# Altium footprint library SparkFun-Boards.PCBLIB: 71 footprints (part 3 of 5)
Each footprint in its own frame and in the unit in brackets; x right, y up, seen from the top. Pads: shape width x height; smd on the part's side, far side on the other; paste and mask are expansions set on the pad; w line width, h text height; cw(c..) or ccw(c..) is an arc to the next point about the centre after c.
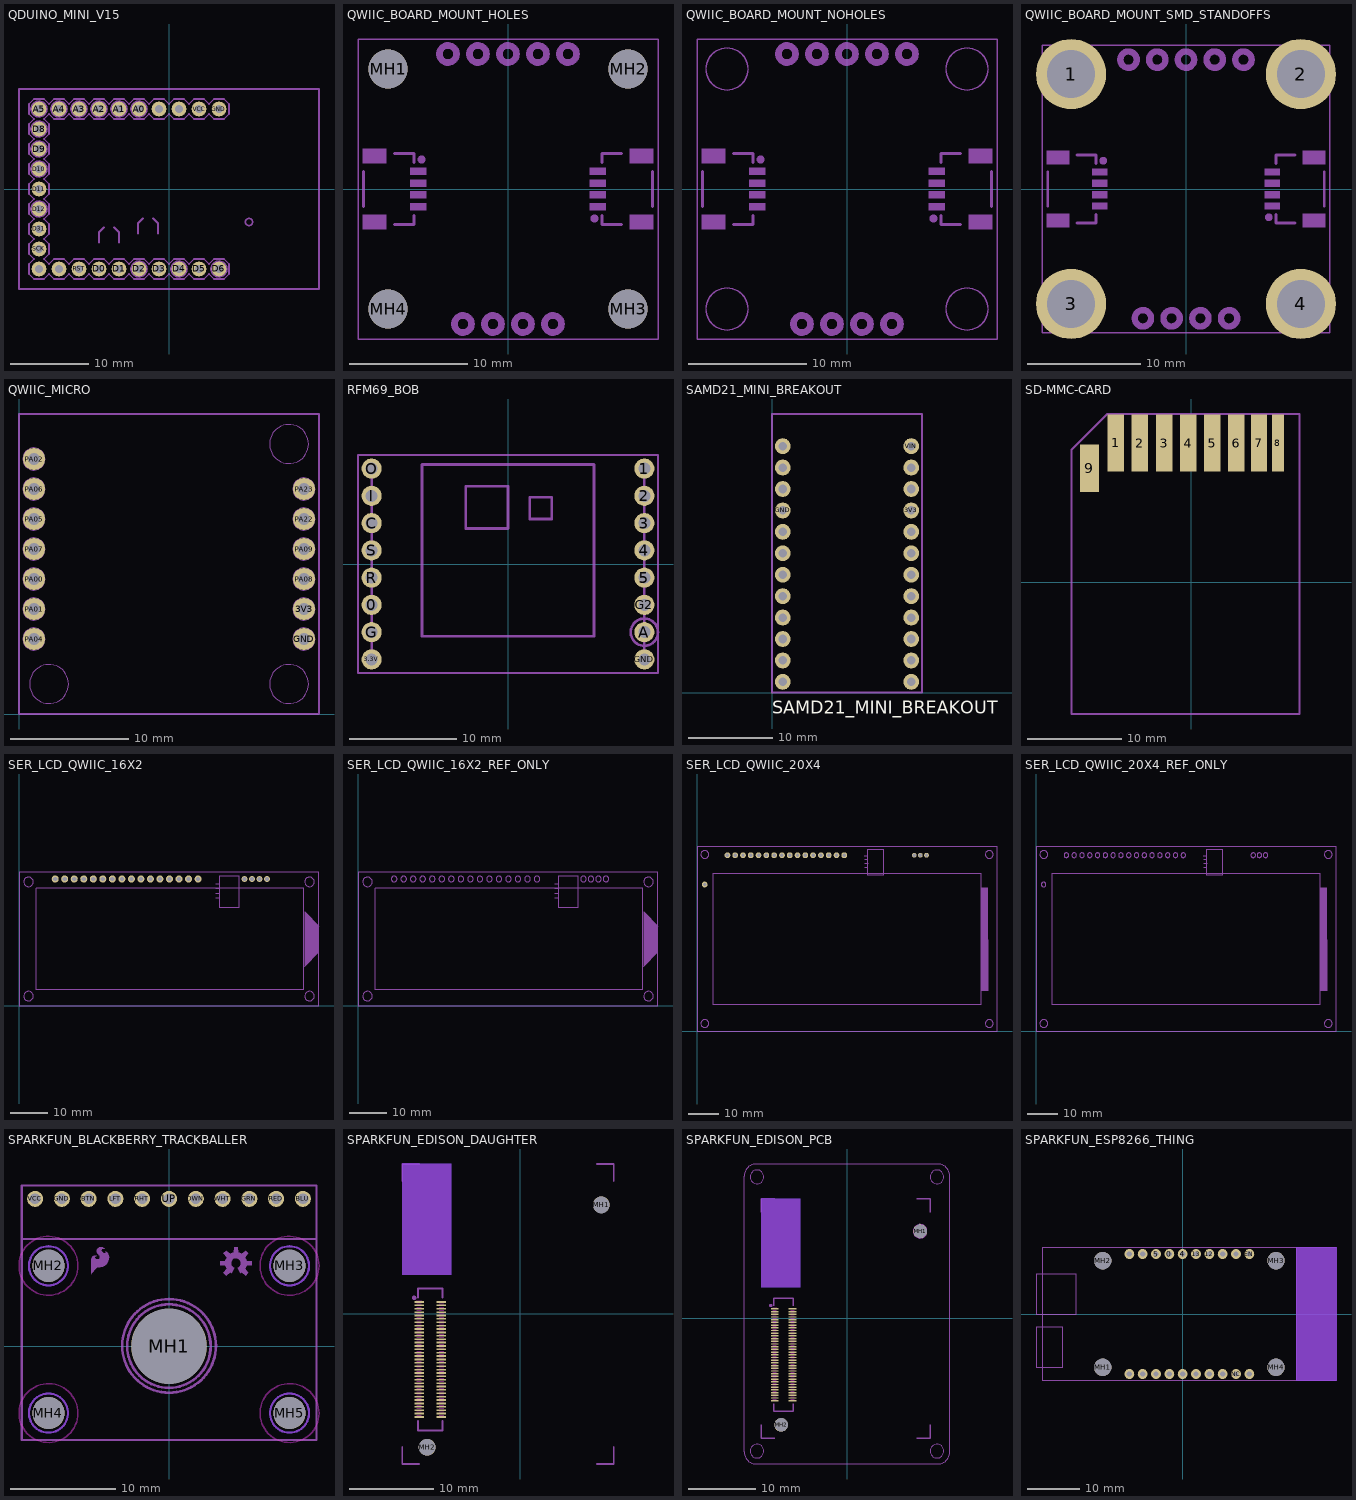
[diagram p2: the footprints below, top view; thin cyan lines are the x and y axes]

## QDUINO_MINI_V15 [mil]
pads (27):
  round 74 hole 40: A0(-150,400) A1(-250,400) A2(-350,400) A3(-450,400) A4(-550,400) A5(-650,400) D0(-350,-400) D1(-250,-400) D2(-150,-400) D3(-50,-400) D4(50,-400) D5(150,-400) D6(250,-400) D8(-650,300) D9(-650,200) D10(-650,100) D11(-650,0) D12(-650,-100) D31(-650,-200) GND(250,400) LIPO(-50,400) MISO(-550,-400) MOSI(-650,-400) RST(-450,-400) SCK(-650,-300) VCC(150,400) VUSB(50,400)
tDocu:
  region: -60,390 -60,410 -40,410 -40,390
  region: -160,390 -160,410 -140,410 -140,390
  region: -260,390 -260,410 -240,410 -240,390
  region: -360,390 -360,410 -340,410 -340,390
  region: -460,390 -460,410 -440,410 -440,390
  region: -560,390 -560,410 -540,410 -540,390
  region: -660,390 -660,410 -640,410 -640,390
  region: 40,390 40,410 60,410 60,390
  region: 140,390 140,410 160,410 160,390
  region: 240,390 240,410 260,410 260,390
  region: -60,-410 -60,-390 -40,-390 -40,-410
  region: -160,-410 -160,-390 -140,-390 -140,-410
  region: -260,-410 -260,-390 -240,-390 -240,-410
  region: -360,-410 -360,-390 -340,-390 -340,-410
  region: -460,-410 -460,-390 -440,-390 -440,-410
  region: -560,-410 -560,-390 -540,-390 -540,-410
  region: -660,-410 -660,-390 -640,-390 -640,-410
  region: 40,-410 40,-390 60,-390 60,-410
  region: 140,-410 140,-390 160,-390 160,-410
  region: 240,-410 240,-390 260,-390 260,-410
  region: -640,290 -660,290 -660,310 -640,310
  region: -640,190 -660,190 -660,210 -640,210
  region: -640,90 -660,90 -660,110 -640,110
  region: -640,-10 -660,-10 -660,10 -640,10
  region: -640,-110 -660,-110 -660,-90 -640,-90
  region: -640,-210 -660,-210 -660,-190 -640,-190
  region: -640,-310 -660,-310 -660,-290 -640,-290
  lines w8: -750,-500 -750,500 750,500 750,-500 -750,-500
tPlace:
  circle w8: c-650,200 r40
  circle w8: c-650,100 r40
  circle w8: c-650,-100 r40
  circle w8: c250,-400 r40
  circle w8: c-650,300 r40
  circle w8: c-150,-400 r40
  circle w8: c-150,400 r40
  circle w8: c-250,400 r40
  circle w8: c-350,400 r40
  circle w8: c-450,400 r40
  circle w8: c-550,400 r40
  circle w8: c-650,400 r40
  circle w8: c50,-400 r40
  text "A5" at -650,475 h27.2
  text "A4" at -550,475 h27.2
  text "A3" at -450,475 h27.2
  text "A2" at -350,475 h27.2
  text "A1" at -250,475 h27.2
  text "A0" at -150,475 h27.2
  text "L+" at -50,475 h27.2
  text "USB" at 50,475 h27.2
  text "+" at 150,475 h27.2
  text "-" at 250,475 h27.2
  text "D8" at -725,300 h27.2
  text "D9" at -725,200 h27.2
  text "D10" at -725,100 h27.2
  text "D11" at -725,0 h27.2
  text "D12" at -725,-100 h27.2
  text "D13" at -725,-200 h27.2
  text "SCK" at -725,-300 h25.5
  text "SI" at -650,-475 h25.5
  text "SO" at -550,-475 h25.5
  text "D0" at -350,-475 h27.2
  text "D1" at -250,-475 h27.2
  text "D2" at -150,-475 h27.2
  text "D3" at -50,-475 h27.2
  text "D4" at 50,-475 h27.2
  text "D5" at 150,-475 h27.2
  text "D6" at 250,-475 h27.2
  text "A5" at -725,400 h27.2
  text "RST" at -450,-475 h25.5
  text "SI" at -725,-400 h25.5
bPlace:
  drawing of 186 lines, arcs and shapes, not listed
  text "A4" at -550,336.5 h27.2
  text "A3" at -450,336.5 h27.2
  text "A2" at -350,336.5 h27.2
  text "A1" at -250,336.5 h27.2
  text "A0" at -150,336.5 h27.2
  text "VCC" at 150,336.5 h27.2
  text "GND" at 250,336.5 h27.2
  text "D9" at -561.5,200 h27.2
  text "D10" at -536.5,85 h27.2
  text "D11" at -536.5,0 h27.2
  text "D12" at -536.5,-96.5 h27.2
  text "RST" at -450,-336.5 h27.2
  text "RX" at -340,-336.5 h27.2
  text "TX" at -250,-336.5 h27.2
  text "SDA" at -150,-336.5 h27.2
  text "SCL" at -50,-336.5 h27.2
  text "D4" at 50,-316.5 h27.2
  text "D5" at 150,-306.5 h27.2
  text "D6" at 250,-336.5 h27.2
  text "Qduino Mini" at 595,10 h59.5
  text "USB+" at 50,336.5 h27.2
  text "LIPO+" at -50,336.5 h27.2
  text "I2C" at -105,-110 h27.2
  text "UART" at -305,-155 h27.2
  text "~" at -480,70 h27.2
  text "~" at -525,205 h27.2
  text "~" at 235,-255 h27.2
  text "~" at 135,-225 h27.2
  text "Analog ADC" at 405,-330 h27.2
  text "~" at 350,-365 h27.2
  text "PWM" at 360,-430 h27.2
  text "D13" at -536.5,-161.5 h27.2
  text "~" at -485,-175 h27.2
  text "~" at -480,-15 h27.2
  text "SPI" at -550,-300 h27.2
  text "~" at -60,-240 h27.2
  text "D8" at -725,300 h27.2
  text "D9" at -725,200 h27.2
  text "D10" at -725,100 h27.2
  text "D11" at -725,0 h27.2
  text "D12" at -725,-100 h27.2
  text "D13" at -725,-200 h27.2
  text "SCK" at -725,-300 h25.5
  text "A5" at -725,400 h27.2
  text "SI" at -725,-400 h25.5
  text "SI" at -650,-475 h25.5
  text "SO" at -550,-475 h25.5
  text "D0" at -350,-475 h27.2
  text "D1" at -250,-475 h27.2
  text "D2" at -150,-475 h27.2
  text "D3" at -50,-475 h27.2
  text "D4" at 50,-475 h27.2
  text "D5" at 150,-475 h27.2
  text "D6" at 250,-475 h27.2
  text "RST" at -450,-475 h25.5
  text "A5" at -650,475 h27.2
  text "A4" at -550,475 h27.2
  text "A3" at -450,475 h27.2
  text "A2" at -350,475 h27.2
  text "A1" at -250,475 h27.2
  text "A0" at -150,475 h27.2
  text "L+" at -40,475 h27.2
  text "USB" at 50,475 h27.2
  text "+" at 150,475 h27.2
  text "-" at 250,475 h27.2

## QWIIC_BOARD_MOUNT_HOLES [mil]
pads (4):
  round 130 hole 130 unplated: MH1(-400,400) MH2(400,400) MH3(400,-400) MH4(-400,-400)
tDocu:
  circle w22: c-50,-450 r28.5
  circle w22: c-150,-450 r28.5
  circle w22: c50,-450 r28.5
  circle w22: c150,-450 r28.5
  circle w22: c-100,450 r28.5
  circle w22: c-200,450 r28.5
  circle w22: c0,450 r28.5
  circle w22: c100,450 r28.5
  circle w22: c200,450 r28.5
  circle w15.75: c-288.19,98.43 r5.57
  circle w15.75: c288.19,-98.43 r5.57
  region: -326.38,47.24 -326.38,70.87 -273.23,70.87 -273.23,47.24
  region: -326.38,7.87 -326.38,31.5 -273.23,31.5 -273.23,7.87
  region: -326.38,-31.5 -326.38,-7.87 -273.23,-7.87 -273.23,-31.5
  region: -326.38,-70.87 -326.38,-47.24 -273.23,-47.24 -273.23,-70.87
  region: -483.86,86.61 -483.86,133.86 -405.51,133.86 -405.51,86.61
  region: -483.86,-133.86 -483.86,-86.61 -405.51,-86.61 -405.51,-133.86
  region: 326.38,-47.24 326.38,-70.87 273.23,-70.87 273.23,-47.24
  region: 326.38,-7.87 326.38,-31.5 273.23,-31.5 273.23,-7.87
  region: 326.38,31.5 326.38,7.87 273.23,7.87 273.23,31.5
  region: 326.38,70.87 326.38,47.24 273.23,47.24 273.23,70.87
  region: 483.86,-86.61 483.86,-133.86 405.51,-133.86 405.51,-86.61
  region: 483.86,133.86 483.86,86.61 405.51,86.61 405.51,133.86
  lines w5: -500,-500 500,-500 500,500 -500,500 -500,-500
  lines w10: -481.1,-59.06 -481.1,59.06 ; -378.74,-118.11 -313.78,-118.11 -313.78,-88.58 ; -378.74,118.11 -313.78,118.11 -313.78,88.58 ; 313.78,-88.58 313.78,-118.11 378.74,-118.11 ; 313.78,88.58 313.78,118.11 378.74,118.11 ; 481.1,-59.06 481.1,59.06
  text "Qwiic Board" at 0,0 h31

## QWIIC_BOARD_MOUNT_NOHOLES [mil]
tDocu:
  circle w22: c-50,-450 r28.5
  circle w22: c-150,-450 r28.5
  circle w22: c50,-450 r28.5
  circle w22: c150,-450 r28.5
  circle w22: c-100,450 r28.5
  circle w22: c-200,450 r28.5
  circle w22: c0,450 r28.5
  circle w22: c100,450 r28.5
  circle w22: c200,450 r28.5
  circle w15.75: c-288.19,98.43 r5.57
  circle w15.75: c288.19,-98.43 r5.57
  circle w5: c-400,400 r70
  circle w5: c400,400 r70
  circle w5: c-400,-400 r70
  circle w5: c400,-400 r70
  region: -326.38,47.24 -326.38,70.87 -273.23,70.87 -273.23,47.24
  region: -326.38,7.87 -326.38,31.5 -273.23,31.5 -273.23,7.87
  region: -326.38,-31.5 -326.38,-7.87 -273.23,-7.87 -273.23,-31.5
  region: -326.38,-70.87 -326.38,-47.24 -273.23,-47.24 -273.23,-70.87
  region: -483.86,86.61 -483.86,133.86 -405.51,133.86 -405.51,86.61
  region: -483.86,-133.86 -483.86,-86.61 -405.51,-86.61 -405.51,-133.86
  region: 326.38,-47.24 326.38,-70.87 273.23,-70.87 273.23,-47.24
  region: 326.38,-7.87 326.38,-31.5 273.23,-31.5 273.23,-7.87
  region: 326.38,31.5 326.38,7.87 273.23,7.87 273.23,31.5
  region: 326.38,70.87 326.38,47.24 273.23,47.24 273.23,70.87
  region: 483.86,-86.61 483.86,-133.86 405.51,-133.86 405.51,-86.61
  region: 483.86,133.86 483.86,86.61 405.51,86.61 405.51,133.86
  lines w5: -500,-500 500,-500 500,500 -500,500 -500,-500
  lines w10: -481.1,-59.06 -481.1,59.06 ; -378.74,-118.11 -313.78,-118.11 -313.78,-88.58 ; -378.74,118.11 -313.78,118.11 -313.78,88.58 ; 313.78,-88.58 313.78,-118.11 378.74,-118.11 ; 313.78,88.58 313.78,118.11 378.74,118.11 ; 481.1,-59.06 481.1,59.06
  text "Qwiic Board" at 0,0 h31
  text "0.13\"" at -300,-475 h31

## QWIIC_BOARD_MOUNT_SMD_STANDOFFS [mil]
pads (4):
  round 244 hole 166: 1(-400,400) 2(400,400) 3(-400,-400) 4(400,-400)
Top Paste:
  drawing of 16 lines, arcs and shapes, not listed
tDocu:
  circle w22: c-50,-450 r28.5
  circle w22: c-150,-450 r28.5
  circle w22: c50,-450 r28.5
  circle w22: c150,-450 r28.5
  circle w22: c-100,450 r28.5
  circle w22: c-200,450 r28.5
  circle w22: c0,450 r28.5
  circle w22: c100,450 r28.5
  circle w22: c200,450 r28.5
  circle w15.75: c-288.19,98.43 r5.57
  circle w15.75: c288.19,-98.43 r5.57
  region: -326.38,47.24 -326.38,70.87 -273.23,70.87 -273.23,47.24
  region: -326.38,7.87 -326.38,31.5 -273.23,31.5 -273.23,7.87
  region: -326.38,-31.5 -326.38,-7.87 -273.23,-7.87 -273.23,-31.5
  region: -326.38,-70.87 -326.38,-47.24 -273.23,-47.24 -273.23,-70.87
  region: -483.86,86.61 -483.86,133.86 -405.51,133.86 -405.51,86.61
  region: -483.86,-133.86 -483.86,-86.61 -405.51,-86.61 -405.51,-133.86
  region: 326.38,-47.24 326.38,-70.87 273.23,-70.87 273.23,-47.24
  region: 326.38,-7.87 326.38,-31.5 273.23,-31.5 273.23,-7.87
  region: 326.38,31.5 326.38,7.87 273.23,7.87 273.23,31.5
  region: 326.38,70.87 326.38,47.24 273.23,47.24 273.23,70.87
  region: 483.86,-86.61 483.86,-133.86 405.51,-133.86 405.51,-86.61
  region: 483.86,133.86 483.86,86.61 405.51,86.61 405.51,133.86
  lines w5: -500,-500 500,-500 500,500 -500,500 -500,-500
  lines w10: -481.1,-59.06 -481.1,59.06 ; -378.74,-118.11 -313.78,-118.11 -313.78,-88.58 ; -378.74,118.11 -313.78,118.11 -313.78,88.58 ; 313.78,-88.58 313.78,-118.11 378.74,-118.11 ; 313.78,88.58 313.78,118.11 378.74,118.11 ; 481.1,-59.06 481.1,59.06
  text "Qwiic Board" at 0,0 h31

## QWIIC_MICRO [mil]
pads (13):
  round 74 hole 40: 3V3(950,350) GND(950,250) PA00(50,450) PA01(50,350) PA02(50,850) PA04(50,250) PA05(50,650) PA06(50,750) PA07(50,550) PA08(950,450) PA09(950,550) PA22(950,650) PA23(950,750)
tDocu:
  circle w0: c50,850 r37
  circle w0: c50,750 r37
  circle w0: c50,650 r37
  circle w0: c50,550 r37
  circle w0: c50,450 r37
  circle w0: c50,350 r37
  circle w0: c50,250 r37
  circle w0: c950,750 r37
  circle w0: c950,650 r37
  circle w0: c950,550 r37
  circle w0: c950,450 r37
  circle w0: c950,350 r37
  circle w0: c950,250 r37
  circle w1: c100,100 r65
  circle w1: c900,100 r65
  circle w1: c900,900 r65
  lines w8: 0,0 1000,0 1000,1000 0,1000 0,0

## RFM69_BOB [mil]
pads (16):
  round 74 hole 44: 0(-500,-150) 1(500,350) 2(500,250) 3(500,150) 3.3V(-500,-350) 4(500,50) 5(500,-50) A(500,-250) C(-500,150) G(-500,-250) G2(500,-150) GND(500,-350) I(-500,250) O(-500,350) R(-500,-50) S(-500,50)
tPlace:
  circle w10: c500,-250 r50
  lines w8: -550,-400 550,-400 550,400 -550,400 -550,-400
  lines w10: -155,280 -155,130 0,130 0,285 -155,285 ; -315,-265 315,-265 315,365 -315,365 -315,-265 ; 80,165 80,245 160,245 160,165 80,165
  text "3.3V" at -437.5,-375 h42.5
  text "GND" at 437.5,-375 h42.5
  text "A" at 412.5,-275 h42.5
  text "S" at -412.5,25 h42.5
  text "I" at -412.5,225 h42.5
  text "O" at -412.5,325 h42.5
  text "C" at -412.5,125 h42.5
  text "0" at -412.5,-175 h42.5
  text "1" at 412.5,325 h42.5
  text "2" at 412.5,225 h42.5
  text "3" at 412.5,125 h42.5
  text "4" at 412.5,25 h42.5
  text "5" at 412.5,-75 h42.5
  text "R" at -412.5,-75 h42.5
  text "G" at -412.5,-275 h42.5
  text "G" at 412.5,-175 h42.5
  text "1" at -215,300 h42.5
  text "RFM69" at -225,-150 h85
Reference:
  lines w10: -500,-350 -500,350 ; 500,-350 500,350

## SAMD21_MINI_BREAKOUT [mil]
pads (24):
  round 74 hole 40: 3V3(650,850) !RESET(50,950) AREF(650,950) GND(50,850) GND1(650,1050) PA02(650,450) PA04(650,750) PA06(50,150) PA07(50,50) PA08(50,550) PA09(50,650) PA10(50,1150) PA11(50,1050) PA14(50,750) PA15(50,450) PA16(650,150) PA17(650,350) PA18(650,50) PA19(650,250) PA20(50,350) PA21(50,250) PB08(650,550) PB09(650,650) VIN(650,1150)
Top Overlay:
  text "SAMD21_MINI_BREAKOUT" at 0,-100 h59.5
tDocu:
  lines w8: 0,0 700,0 700,1300 0,1300 0,0

## SD-MMC-CARD [mm]
pads (9):
  rect 1.75x6 smd: 1(-8.015,14.713) 2(-5.465,14.703) 3(-2.87,14.703) 4(-0.34,14.703) 5(2.195,14.703) 6(4.76,14.703)
  rect 1.65x6 smd: 7(7.16,14.703)
  rect 1.25x6 smd: 8(9.16,14.703)
  rect 2x5 smd: 9(-10.8,12.03)
tPlace:
  lines w0.203: -12.7,14.03 -12.7,-13.97 ; 11.3,-13.97 -12.7,-13.97 ; -12.7,-13.97 -12.7,13.97 -8.89,17.78 11.43,17.78 11.43,-13.97 -12.7,-13.97

## SER_LCD_QWIIC_16X2 [mil]
pads (20):
  round 74 hole 44: P$1(380,1330) P$2(480,1330) P$3(580,1330) P$4(680,1330) P$5(780,1330) P$6(880,1330) P$7(980,1330) P$8(1080,1330) P$9(1180,1330) P$10(1280,1330) P$11(1380,1330) P$12(1480,1330) P$13(1580,1330) P$14(1680,1330) P$15(1780,1330) P$16(1880,1330)
  round 60 hole 44: P$17(2367.78,1330) P$18(2446.52,1330) P$19(2525.26,1330) P$20(2604,1330)
tPlace:
  text "3.3V Logic Only" at 1575,40 h102.3
Measures:
  text "(x16)" at 1047,2527 h108.5
  text "(x4)" at 2747,2527 h108.5
  text "DIA" at -105.6,2646.4 h86.8
  text "(x4)" at -165,2587 h86.8
Reference:
  circle w5: c100,100 r50
  circle w5: c100,1300 r50
  circle w5: c3050,1300 r50
  circle w5: c3050,100 r50
  region: 3000,415 3000,985 3150,835 3150,565
  lines w5: 183,165 2990,165 2990,1232 183,1232 183,166 ; 3150,565 3150,0 0,0 0,1400 3150,1400 3150,835 ; 3150,565 3000,415 3000,985 3150,835 ; 3150,565 3150,835
  lines w6: 2064,1274 2107,1274 ; 2065,1126 2108,1126 ; 2065,1225 2108,1225 ; 2067,1177 2110,1177 ; 2109,1028 2310,1028 2310,1365 2109,1365 2109,1028
  text "QWIIC" at 2160,1099 h34

## SER_LCD_QWIIC_16X2_REF_ONLY [mil]
tPlace:
  text "3.3V Logic Only" at 1575,40 h102.3
Measures:
  text "(x16)" at 1047,2527 h108.5
  text "(x4)" at 2747,2527 h108.5
  text "DIA" at -105.6,2646.4 h86.8
  text "(x4)" at -165,2587 h86.8
Reference:
  circle w5: c100,100 r50
  circle w5: c100,1300 r50
  circle w5: c3050,1300 r50
  circle w5: c3050,100 r50
  circle w5: c380,1330 r30
  circle w5: c480,1330 r30
  circle w5: c580,1330 r30
  circle w5: c680,1330 r30
  circle w5: c780,1330 r30
  circle w5: c880,1330 r30
  circle w5: c980,1330 r30
  circle w5: c1080,1330 r30
  circle w5: c1180,1330 r30
  circle w5: c1280,1330 r30
  circle w5: c1380,1330 r30
  circle w5: c1480,1330 r30
  circle w5: c1580,1330 r30
  circle w5: c1680,1330 r30
  circle w5: c1780,1330 r30
  circle w5: c1880,1330 r30
  circle w5: c2367.78,1330 r30
  circle w5: c2446.52,1330 r30
  circle w5: c2525.26,1330 r30
  circle w5: c2604,1331 r30
  region: 3000,415 3000,985 3150,835 3150,565
  lines w5: 183,165 2990,165 2990,1232 183,1232 183,166 ; 3150,565 3150,0 0,0 0,1400 3150,1400 3150,835 ; 3150,565 3000,415 3000,985 3150,835 ; 3150,565 3150,835
  lines w6: 2064,1274 2107,1274 ; 2065,1126 2108,1126 ; 2065,1225 2108,1225 ; 2067,1177 2110,1177 ; 2109,1028 2310,1028 2310,1365 2109,1365 2109,1028
  text "QWIIC" at 2160,1099 h34

## SER_LCD_QWIIC_20X4 [mil]
pads (20):
  round 74 hole 44: P$1(390,2260) P$2(490,2260) P$3(590,2260) P$4(690,2260) P$5(790,2260) P$6(890,2260) P$7(990,2260) P$8(1090,2260) P$9(1190,2260) P$10(1290,2260) P$11(1390,2260) P$12(1490,2260) P$13(1590,2260) P$14(1690,2260) P$15(1790,2260) P$16(1890,2260) P$20(98,1884)
  round 60 hole 44: P$17(2788,2260) P$18(2866.74,2260) P$19(2945.48,2260)
Measures:
  text "(x16)" at 1053,3377 h108.5
  text "DIA (x4)" at -600,3250 h108.5
  text "(x3)" at 3432,3528 h108.5
Reference:
  circle w5: c100,100 r50
  circle w5: c100,2270 r50
  circle w5: c3750,2270 r50
  circle w5: c3750,100 r50
  region: 3650,1840 3730,1840 3735,520 3650,520
  lines w5: 0,0 3850,0 3850,2370 0,2370 0,0
  lines w6: 2149,2249 2192,2249 ; 2150,2101 2193,2101 ; 2150,2200 2193,2200 ; 2152,2152 2195,2152 ; 2395,2003 2394,2003 ; 2395,2340 2394,2340 ; 2394,2003 2194,2003 2194,2340 2394,2340 ; 2394,2003 2394,2340
  lines w8: 200,350 200,2020 3650,2020 3650,350 200,350
  text "QWIIC" at 2245,2074 h34

## SER_LCD_QWIIC_20X4_REF_ONLY [mil]
Measures:
  text "(x16)" at 1053,3377 h108.5
  text "DIA (x4)" at -600,3250 h108.5
  text "(x3)" at 3432,3528 h108.5
Reference:
  circle w5: c100,100 r50
  circle w5: c100,2270 r50
  circle w5: c3750,2270 r50
  circle w5: c3750,100 r50
  circle w5: c390,2260 r30
  circle w5: c490,2260 r30
  circle w5: c590,2260 r30
  circle w5: c690,2260 r30
  circle w5: c790,2260 r30
  circle w5: c890,2260 r30
  circle w5: c990,2260 r30
  circle w5: c1090,2260 r30
  circle w5: c1190,2260 r30
  circle w5: c1290,2260 r30
  circle w5: c1390,2260 r30
  circle w5: c1490,2260 r30
  circle w5: c1590,2260 r30
  circle w5: c1690,2260 r30
  circle w5: c1790,2260 r30
  circle w5: c1890,2260 r30
  circle w5: c98,1884 r30
  circle w5: c2945.48,2260 r30
  circle w5: c2866.74,2260 r30
  circle w5: c2788,2260 r30
  region: 3650,1840 3730,1840 3735,520 3650,520
  lines w5: 0,0 3850,0 3850,2370 0,2370 0,0
  lines w6: 2149,2249 2192,2249 ; 2150,2101 2193,2101 ; 2150,2200 2193,2200 ; 2152,2152 2195,2152 ; 2395,2003 2394,2003 ; 2395,2340 2394,2340 ; 2394,2003 2194,2003 2194,2340 2394,2340 ; 2394,2003 2394,2340
  lines w8: 200,350 200,2020 3650,2020 3650,350 200,350
  text "QWIIC" at 2245,2074 h34

## SPARKFUN_BLACKBERRY_TRACKBALLER [mil]
pads (16):
  round 60 hole 40: BLU(500,550) BTN(-300,550) DWN(100,550) GND(-400,550) GRN(300,550) LFT(-200,550) RED(400,550) RHT(-100,550) UP(0,550) VCC(-500,550) WHT(200,550)
  round 281.25 hole 281.25 unplated: MH1(0,0)
  round 120 hole 120 unplated: MH2(-450,300) MH3(450,300) MH4(-450,-250) MH5(450,-250)
Top keep-out:
  circle w5: c-450,300 r110
  circle w5: c450,300 r110
  circle w5: c-450,-250 r110
  circle w5: c450,-250 r110
  lines w8: -450,-323 ccw(c-450,-250) -450,-177 ccw(c-450,-250) -450,-323 ; -450,227 ccw(c-450,300) -450,373 ccw(c-450,300) -450,227 ; 450,-323 ccw(c450,-250) 450,-177 ccw(c450,-250) 450,-323 ; 450,227 ccw(c450,300) 450,373 ccw(c450,300) 450,227
Bottom keep-out:
  lines w8: -450,-323 ccw(c-450,-250) -450,-177 ccw(c-450,-250) -450,-323 ; -450,227 ccw(c-450,300) -450,373 ccw(c-450,300) -450,227 ; 450,-323 ccw(c450,-250) 450,-177 ccw(c450,-250) 450,-323 ; 450,227 ccw(c450,300) 450,373 ccw(c450,300) 450,227
tDocu:
  lines w8: -550,400 550,400 ; -550,400 -550,-350 550,-350 550,400 ; -550,400 -550,600 550,600 550,400
  text "Top Mounting Board" at 0,-300 h34
  text "Bottom Mounting Board" at 0,450 h34
tPlace:
  drawing of 4 lines, arcs and shapes, not listed
  text "UP" at 0,250 h42.5
  text "RIGHT" at 425,0 h42.5
  text "LEFT" at -375,0 h42.5
  text "DOWN" at 0,-200 h42.5

## SPARKFUN_EDISON_DAUGHTER [mm]
pads (72):
  rect 1.14x0.2 smd: 1(-11.99,1.39) 2(-9.35,1.39) 3(-11.99,0.99) 4(-9.35,0.99) 5(-11.99,0.59) 6(-9.35,0.59) 7(-11.99,0.19) 8(-9.35,0.19) 9(-11.99,-0.21) 10(-9.35,-0.21) 11(-11.99,-0.61) 12(-9.35,-0.61) 13(-11.99,-1.01) 14(-9.35,-1.01) 15(-11.99,-1.41) 16(-9.35,-1.41) 17(-11.99,-1.81) 18(-9.35,-1.81) 19(-11.99,-2.21) 20(-9.35,-2.21) 21(-11.99,-2.61) 22(-9.35,-2.61) 23(-11.99,-3.01) 24(-9.35,-3.01) 25(-11.99,-3.41) 26(-9.35,-3.41) 27(-11.99,-3.81) 28(-9.35,-3.81) 29(-11.99,-4.21) 30(-9.35,-4.21) 31(-11.99,-4.61) 32(-9.35,-4.61) 33(-11.99,-5.01) 34(-9.35,-5.01) 35(-11.99,-5.41) 36(-9.35,-5.41) 37(-11.99,-5.81) 38(-9.35,-5.81) 39(-11.99,-6.21) 40(-9.35,-6.21) 41(-11.99,-6.61) 42(-9.35,-6.61) 43(-11.99,-7.01) 44(-9.35,-7.01) 45(-11.99,-7.41) 46(-9.35,-7.41) 47(-11.99,-7.81) 48(-9.35,-7.81) 49(-11.99,-8.21) 50(-9.35,-8.21) 51(-11.99,-8.61) 52(-9.35,-8.61) 53(-11.99,-9.01) 54(-9.35,-9.01) 55(-11.99,-9.41) 56(-9.35,-9.41) 57(-11.99,-9.81) 58(-9.35,-9.81) 59(-11.99,-10.21) 60(-9.35,-10.21) 61(-11.99,-10.61) 62(-9.35,-10.61) 63(-11.99,-11.01) 64(-9.35,-11.01) 65(-11.99,-11.41) 66(-9.35,-11.41) 67(-11.99,-11.81) 68(-9.35,-11.81) 69(-11.99,-12.21) 70(-9.35,-12.21)
  round 2 hole 2 unplated: MH1(9.56,12.89) MH2(-11.04,-15.8)
Top keep-out:
  region: -8.19,17.72 -8.19,4.61 -13.97,4.61 -13.97,17.72
  lines w0.025: -12.307,1.539 -11.673,1.539
  lines w0.051: -12.246,-12.01 -11.734,-12.01 ; -12.246,-11.61 -11.734,-11.61 ; -12.246,-11.21 -11.734,-11.21 ; -12.246,-10.81 -11.734,-10.81 ; -12.246,-10.41 -11.734,-10.41 ; -12.246,-10.01 -11.734,-10.01 ; -12.246,-9.61 -11.734,-9.61 ; -12.246,-9.21 -11.734,-9.21 ; -12.246,-8.81 -11.734,-8.81 ; -12.246,-8.41 -11.734,-8.41 ; -12.246,-8.01 -11.734,-8.01 ; -12.246,-7.61 -11.734,-7.61 ; -12.246,-7.21 -11.734,-7.21 ; -12.246,-6.81 -11.734,-6.81 ; -12.246,-6.41 -11.734,-6.41 ; -12.246,-6.01 -11.734,-6.01 ; -12.246,-5.61 -11.734,-5.61 ; -12.246,-5.21 -11.734,-5.21 ; -12.246,-4.81 -11.734,-4.81 ; -12.246,-4.41 -11.734,-4.41 ; -12.246,-4.01 -11.734,-4.01 ; -12.246,-3.61 -11.734,-3.61 ; -12.246,-3.21 -11.734,-3.21 ; -12.246,-2.81 -11.734,-2.81 ; -12.246,-2.41 -11.734,-2.41 ; -12.246,-2.01 -11.734,-2.01 ; -12.246,-1.61 -11.734,-1.61 ; -12.246,-1.21 -11.734,-1.21 ; -12.246,-0.81 -11.734,-0.81 ; -12.246,-0.41 -11.734,-0.41 ; -12.246,-0.01 -11.734,-0.01 ; -12.246,0.39 -11.734,0.39 ; -12.246,0.79 -11.734,0.79 ; -12.246,1.19 -11.734,1.19 ; -9.601,-12.01 -9.089,-12.01 ; -9.601,-11.61 -9.089,-11.61 ; -9.601,-11.21 -9.089,-11.21 ; -9.601,-10.81 -9.089,-10.81 ; -9.601,-10.41 -9.089,-10.41 ; -9.601,-10.01 -9.089,-10.01 ; -9.601,-9.61 -9.089,-9.61 ; -9.601,-9.21 -9.089,-9.21 ; -9.601,-8.81 -9.089,-8.81 ; -9.601,-8.41 -9.089,-8.41 ; -9.601,-8.01 -9.089,-8.01 ; -9.601,-7.61 -9.089,-7.61 ; -9.601,-7.21 -9.089,-7.21 ; -9.601,-6.81 -9.089,-6.81 ; -9.601,-6.41 -9.089,-6.41 ; -9.601,-6.01 -9.089,-6.01 ; -9.601,-5.61 -9.089,-5.61 ; -9.601,-5.21 -9.089,-5.21 ; -9.601,-4.81 -9.089,-4.81 ; -9.601,-4.41 -9.089,-4.41 ; -9.601,-4.01 -9.089,-4.01 ; -9.601,-3.61 -9.089,-3.61 ; -9.601,-3.21 -9.089,-3.21 ; -9.601,-2.81 -9.089,-2.81 ; -9.601,-2.41 -9.089,-2.41 ; -9.601,-2.01 -9.089,-2.01 ; -9.601,-1.61 -9.089,-1.61 ; -9.601,-1.21 -9.089,-1.21 ; -9.601,-0.81 -9.089,-0.81 ; -9.601,-0.41 -9.089,-0.41 ; -9.601,-0.01 -9.089,-0.01 ; -9.601,0.39 -9.089,0.39 ; -9.601,0.79 -9.089,0.79 ; -9.601,1.19 -9.089,1.19
Bottom keep-out:
  region: -8.19,17.72 -8.19,4.61 -13.97,4.61 -13.97,17.72
tPlace:
  circle w0.305: c-12.57,1.89 r0.1
  lines w0.203: -13.97,-15.78 -13.97,-17.78 -11.97,-17.78 ; -13.97,15.72 -13.97,17.72 -11.97,17.72 ; -12.11,-12.7 -12.11,-13.81 -9.23,-13.81 -9.23,-12.7 ; -12.11,1.88 -12.11,2.99 -9.23,2.99 -9.23,1.88 ; 9.03,-17.78 11.03,-17.78 11.03,-15.78 ; 9.03,17.72 11.03,17.72 11.03,15.72

## SPARKFUN_EDISON_PCB [mm]
pads (72):
  rect 1.14x0.2 smd: 1(-10.72,1.39) 2(-8.08,1.39) 3(-10.72,0.99) 4(-8.08,0.99) 5(-10.72,0.59) 6(-8.08,0.59) 7(-10.72,0.19) 8(-8.08,0.19) 9(-10.72,-0.21) 10(-8.08,-0.21) 11(-10.72,-0.61) 12(-8.08,-0.61) 13(-10.72,-1.01) 14(-8.08,-1.01) 15(-10.72,-1.41) 16(-8.08,-1.41) 17(-10.72,-1.81) 18(-8.08,-1.81) 19(-10.72,-2.21) 20(-8.08,-2.21) 21(-10.72,-2.61) 22(-8.08,-2.61) 23(-10.72,-3.01) 24(-8.08,-3.01) 25(-10.72,-3.41) 26(-8.08,-3.41) 27(-10.72,-3.81) 28(-8.08,-3.81) 29(-10.72,-4.21) 30(-8.08,-4.21) 31(-10.72,-4.61) 32(-8.08,-4.61) 33(-10.72,-5.01) 34(-8.08,-5.01) 35(-10.72,-5.41) 36(-8.08,-5.41) 37(-10.72,-5.81) 38(-8.08,-5.81) 39(-10.72,-6.21) 40(-8.08,-6.21) 41(-10.72,-6.61) 42(-8.08,-6.61) 43(-10.72,-7.01) 44(-8.08,-7.01) 45(-10.72,-7.41) 46(-8.08,-7.41) 47(-10.72,-7.81) 48(-8.08,-7.81) 49(-10.72,-8.21) 50(-8.08,-8.21) 51(-10.72,-8.61) 52(-8.08,-8.61) 53(-10.72,-9.01) 54(-8.08,-9.01) 55(-10.72,-9.41) 56(-8.08,-9.41) 57(-10.72,-9.81) 58(-8.08,-9.81) 59(-10.72,-10.21) 60(-8.08,-10.21) 61(-10.72,-10.61) 62(-8.08,-10.61) 63(-10.72,-11.01) 64(-8.08,-11.01) 65(-10.72,-11.41) 66(-8.08,-11.41) 67(-10.72,-11.81) 68(-8.08,-11.81) 69(-10.72,-12.21) 70(-8.08,-12.21)
  round 2 hole 2 unplated: MH1(10.83,12.89) MH2(-9.77,-15.8)
Top keep-out:
  region: -6.92,17.72 -6.92,4.61 -12.7,4.61 -12.7,17.72
  lines w0.025: -11.037,1.539 -10.403,1.539
  lines w0.051: -10.976,-12.01 -10.464,-12.01 ; -10.976,-11.61 -10.464,-11.61 ; -10.976,-11.21 -10.464,-11.21 ; -10.976,-10.81 -10.464,-10.81 ; -10.976,-10.41 -10.464,-10.41 ; -10.976,-10.01 -10.464,-10.01 ; -10.976,-9.61 -10.464,-9.61 ; -10.976,-9.21 -10.464,-9.21 ; -10.976,-8.81 -10.464,-8.81 ; -10.976,-8.41 -10.464,-8.41 ; -10.976,-8.01 -10.464,-8.01 ; -10.976,-7.61 -10.464,-7.61 ; -10.976,-7.21 -10.464,-7.21 ; -10.976,-6.81 -10.464,-6.81 ; -10.976,-6.41 -10.464,-6.41 ; -10.976,-6.01 -10.464,-6.01 ; -10.976,-5.61 -10.464,-5.61 ; -10.976,-5.21 -10.464,-5.21 ; -10.976,-4.81 -10.464,-4.81 ; -10.976,-4.41 -10.464,-4.41 ; -10.976,-4.01 -10.464,-4.01 ; -10.976,-3.61 -10.464,-3.61 ; -10.976,-3.21 -10.464,-3.21 ; -10.976,-2.81 -10.464,-2.81 ; -10.976,-2.41 -10.464,-2.41 ; -10.976,-2.01 -10.464,-2.01 ; -10.976,-1.61 -10.464,-1.61 ; -10.976,-1.21 -10.464,-1.21 ; -10.976,-0.81 -10.464,-0.81 ; -10.976,-0.41 -10.464,-0.41 ; -10.976,-0.01 -10.464,-0.01 ; -10.976,0.39 -10.464,0.39 ; -10.976,0.79 -10.464,0.79 ; -10.976,1.19 -10.464,1.19 ; -8.331,-12.01 -7.819,-12.01 ; -8.331,-11.61 -7.819,-11.61 ; -8.331,-11.21 -7.819,-11.21 ; -8.331,-10.81 -7.819,-10.81 ; -8.331,-10.41 -7.819,-10.41 ; -8.331,-10.01 -7.819,-10.01 ; -8.331,-9.61 -7.819,-9.61 ; -8.331,-9.21 -7.819,-9.21 ; -8.331,-8.81 -7.819,-8.81 ; -8.331,-8.41 -7.819,-8.41 ; -8.331,-8.01 -7.819,-8.01 ; -8.331,-7.61 -7.819,-7.61 ; -8.331,-7.21 -7.819,-7.21 ; -8.331,-6.81 -7.819,-6.81 ; -8.331,-6.41 -7.819,-6.41 ; -8.331,-6.01 -7.819,-6.01 ; -8.331,-5.61 -7.819,-5.61 ; -8.331,-5.21 -7.819,-5.21 ; -8.331,-4.81 -7.819,-4.81 ; -8.331,-4.41 -7.819,-4.41 ; -8.331,-4.01 -7.819,-4.01 ; -8.331,-3.61 -7.819,-3.61 ; -8.331,-3.21 -7.819,-3.21 ; -8.331,-2.81 -7.819,-2.81 ; -8.331,-2.41 -7.819,-2.41 ; -8.331,-2.01 -7.819,-2.01 ; -8.331,-1.61 -7.819,-1.61 ; -8.331,-1.21 -7.819,-1.21 ; -8.331,-0.81 -7.819,-0.81 ; -8.331,-0.41 -7.819,-0.41 ; -8.331,-0.01 -7.819,-0.01 ; -8.331,0.39 -7.819,0.39 ; -8.331,0.79 -7.819,0.79 ; -8.331,1.19 -7.819,1.19
Bottom keep-out:
  region: -6.92,17.72 -6.92,4.61 -12.7,4.61 -12.7,17.72
tDocu:
  circle w0.127: c-13.335,-19.685 r1.016
  circle w0.127: c13.335,-19.685 r1.016
  circle w0.127: c10.83,12.89 r1.016
  circle w0.127: c-13.335,20.955 r1.016
  circle w0.127: c13.335,20.955 r1.016
  lines w0.127: -15.24,-19.812 -15.24,21.082 cw(c-13.462,21.082) -13.462,22.86 13.462,22.86 cw(c13.462,21.082) 15.24,21.082 15.24,-19.812 cw(c13.462,-19.812) 13.462,-21.59 -13.462,-21.59 cw(c-13.462,-19.812) -15.24,-19.812
tPlace:
  circle w0.305: c-11.3,1.89 r0.1
  lines w0.203: -12.7,-15.78 -12.7,-17.78 -10.7,-17.78 ; -12.7,15.72 -12.7,17.72 -10.7,17.72 ; -10.84,-12.7 -10.84,-13.81 -7.96,-13.81 -7.96,-12.7 ; -10.84,1.88 -10.84,2.99 -7.96,2.99 -7.96,1.88 ; 10.3,-17.78 12.3,-17.78 12.3,-15.78 ; 10.3,17.72 12.3,17.72 12.3,15.72

## SPARKFUN_ESP8266_THING [mil]
pads (24):
  round 74 hole 40: 0(-100,450) 3.3V@1(-300,-450) 3.3V@2(300,-450) 4(0,450) 5(-200,450) 12(200,450) 13(100,450) ADC(400,450) DTR(0,-450) EN(500,450) GND@1(-400,-450) GND@2(500,-450) GND@3(-400,450) NC(400,-450) RXI(200,-450) SCL(-100,-450) SDA(-200,-450) TXO(100,-450) VIN(-300,450) XPD(300,450)
  round 130 hole 130 unplated: MH1(-600,-400) MH2(-600,400) MH3(700,400) MH4(700,-400)
Top keep-out:
  region: 850,500 850,-500 1150,-500 1150,500
Bottom keep-out:
  region: 850,500 850,-500 1150,-500 1150,500
tDocu:
  lines w5: -1100,-100 -900,-100 ; -1050,-500 -1050,0 -1050,500 1150,500 1150,-500 -1050,-500
Reference:
  lines w5: -1100,-100 -1100,-400 -900,-400 -900,-100 ; 850,-500 850,500 ; -1100,0 -1100,300 -800,300 -800,0 -1050,0 -1100,0
  text "Antenna" at 925,-200 h59.5
  text "JST" at -975,50 h59.5
  text "USB" at -975,-350 h59.5